# EAGLE library part SWITCH-SPDT-2CH (library Eagle_CAD_parts)
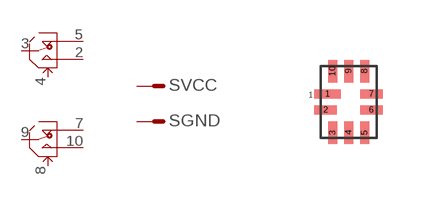
[diagram p65: symbol with the pads of 10-UQFN; footprint 10-UQFN]

Designator prefix S; gates A=SWITCH-SPDT B=SWITCH-SPDT VCC=PIN_1 GND=PIN_1

## SWITCH-SPDT-2CH_NLAS5223C (DIGIKEY_PART_NUMBER: NLAS5223CMUTAGOSCT-ND; MANUFACTURER_PART_NUMBER: NLAS5223CMUTAG; RON: 350 mOhm)  [10-UQFN]
1  VCC:S  pas
2  A:NO
3  A:COM
4  A:CTRL
5  A:NC
6  GND:S  pas
7  B:NC
8  B:CTRL
9  B:COM
10  B:NO

## Footprint 10-UQFN (pad centres in mm)
smd 0.663 x 0.225: 1 -0.52,0.2
smd 0.563 x 0.225: 2 -0.57,-0.2; 6 0.57,-0.2; 7 0.57,0.2
smd 0.225 x 0.563: 3 -0.4,-0.77; 4 0,-0.77; 5 0.4,-0.77; 8 0.4,0.77; 9 0,0.77; 10 -0.4,0.77